# Altium schematic symbol library mpu6050.SchLib: 1 symbol
Pins are listed as number, name and electrical type; pins without a type are passive.

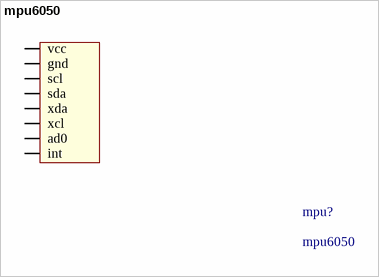
[diagram p0: symbol mpu6050]

## mpu6050
designator mpu?
this is mpu6050; Supplier 1: Digi-Key; Supplier Part Number 1: 1428-1007-2-ND
footprint PCBComponent_1
pins: 0 vcc, 1 gnd, 2 scl, 3 sda, 4 xda, 5 xcl, 6 ad0, 7 int